# Altium footprint library MOLEX_2125280600.PcbLib: 1 footprints
Each footprint in its own frame and in the unit in brackets; x right, y up, seen from the top. Pads: shape width x height; smd on the part's side, far side on the other; paste and mask are expansions set on the pad; w line width, h text height; cw(c..) or ccw(c..) is an arc to the next point about the centre after c.
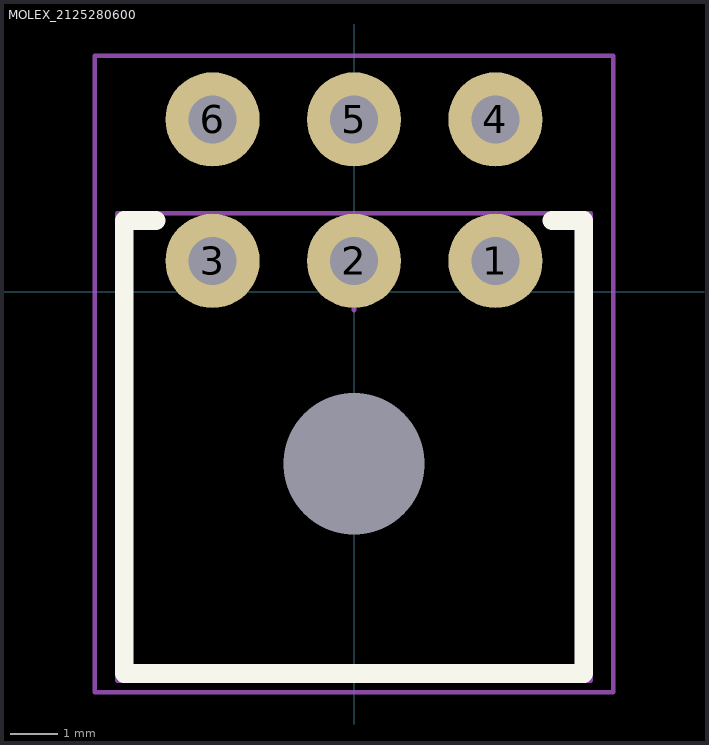
[diagram p0: the footprint, top view; thin cyan lines are the x and y axes]

## MOLEX_2125280600 [mm] "MOLEX_2125280600"
height 7.4
pads (7):
  round 2 hole 1.02: 1(3,0.65) 2(0,0.65) 3(-3,0.65) 4(3,3.65) 5(0,3.65) 6(-3,3.65)
  round 0 hole 3 unplated: ""(0,-3.65)
Top Overlay:
  lines w0.4: -4.2,1.51 -4.875,1.51 -4.875,-8.1 4.875,-8.1 4.875,1.51 4.2,1.51
Mechanical 13:
  lines w0.1: -5.025,-8.25 5.025,-8.25 5.025,1.66 -5.025,1.66 -5.025,-8.25
Mechanical 15:
  lines w0.1: -0.4,0 0.4,0 ; 0,-0.4 0,0.4 ; -5.5,-8.5 -5.5,5 5.5,5 5.5,-8.5 -5.5,-8.5
3D body "MOLEX_2125280600.stp": height 8.26, standoff -3.79, extent -4.925,-8.25 4.925,3.93